# Altium integrated library TI_Logic_Specialty_Logic.IntLib: 2504 symbols (part 1 of 81)
Pins are listed as number, name and electrical type; pins without a type are passive.

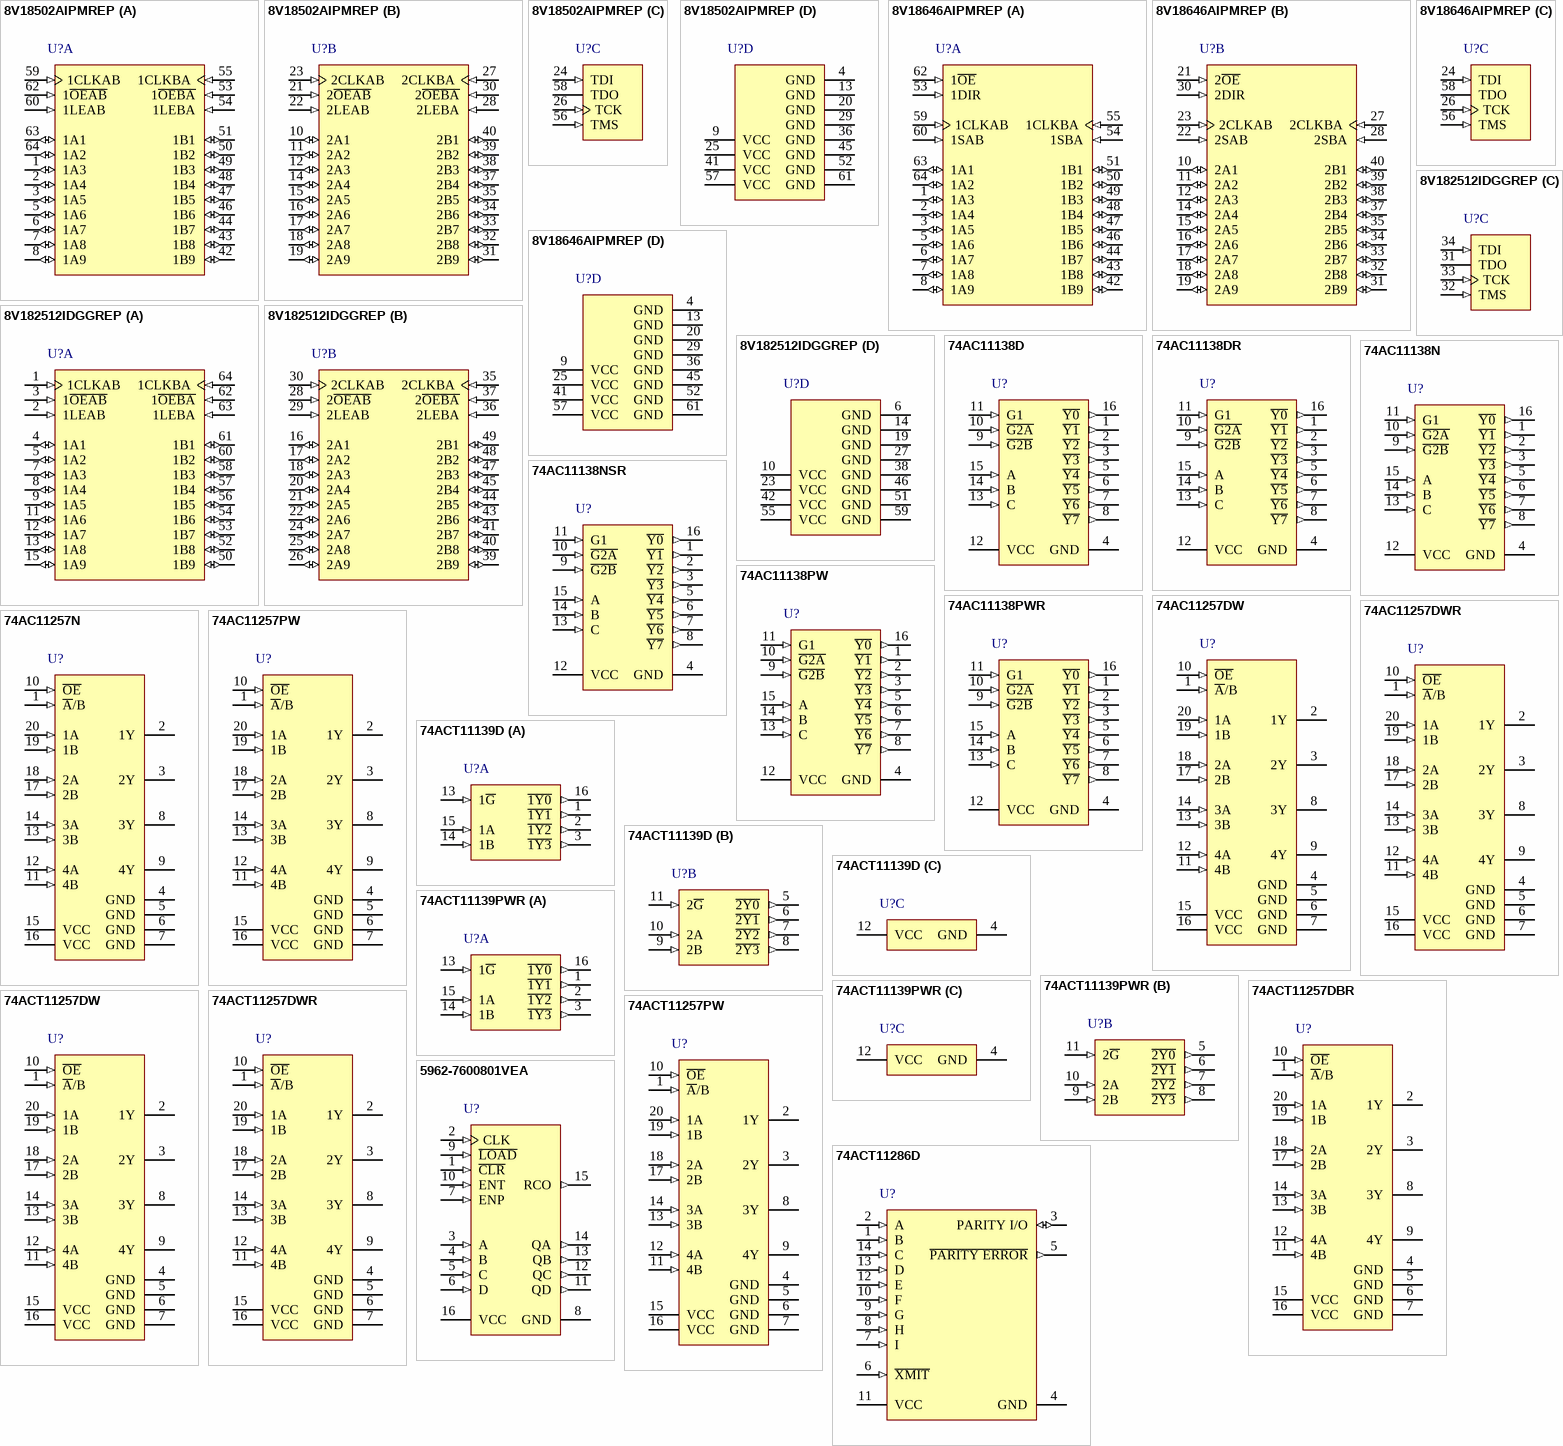
[diagram p0: symbols 8V18502AIPMREP to 5962-7600801VEA]

## 8V18502AIPMREP
designator U?
Enhanced Product 3.3-V Abt Scan Test Devices With 18-Bit Universal Bus Transceivers, PM0064A, LARGE T&R; Generic Part Number: SN74LVTH18502A-EP; Manufacturer: Texas Instruments; PartNumber: 8V18502AIPMREP; VCC(Min)(V): 2.7; VCC(Max)(V): 3.6; Output Type: TTL; ICC @ Nom Voltage(Max)(mA): 24; Bits(#): 18; F @ Nom Voltage(Max)(Mhz): 160; Rating: HiRel Enhanced Product; Technology Family: LVT; Voltage(Nom)(V): 3.3; Output Drive (IOL/IOH)(Max)(mA): 64/-32; Output Logic: True; tpd @ Nom Voltage(Max)(ns): 4.9; DatasheetVersion: SCAS744A; PackageReference: PM0064A; Supplier 1: Mouser; Supplier Part Number 1: 595-8V18502AIPMREP; Supplier 2: Digi-Key; Supplier Part Number 2: 296-22076-2-ND; Supplier 3: Digi-Key; Supplier Part Number 3: 296-22076-1-ND; Input Type: TTL; Operating Temperature Range(C): -40 to 85; ComponentLink1Description: Manufacturer URL; ComponentLink1URL: http://www.ti.com/; ComponentLink2Description: Datasheet; ComponentLink2URL: http://www.ti.com/lit/ds/symlink/sn74lvth18502a-ep.pdf
footprint PM0064A_N (QFP, 64-Leads, Body 10x10mm, Pitch 0.5mm, IPC Medium Density)
footprint PM0064A_M (QFP, 64-Leads, Body 10x10mm, Pitch 0.5mm, IPC Low Density)
footprint PM0064A_L (QFP, 64-Leads, Body 10x10mm, Pitch 0.5mm, IPC High Density)
part A pins: 1 1A3 (io) "Normal-function A-bus I/O ports. See function table for normal-mode logic.", 2 1A4 (io) "Normal-function A-bus I/O ports. See function table for normal-mode logic.", 3 1A5 (io) "Normal-function A-bus I/O ports. See function table for normal-mode logic.", 5 1A6 (io) "Normal-function A-bus I/O ports. See function table for normal-mode logic.", 6 1A7 (io) "Normal-function A-bus I/O ports. See function table for normal-mode logic.", 7 1A8 (io) "Normal-function A-bus I/O ports. See function table for normal-mode logic.", 8 1A9 (io) "Normal-function A-bus I/O ports. See function table for normal-mode logic.", 42 1B9 (io) "Normal-function B-bus I/O ports. See function table for normal-mode logic.", 43 1B8 (io) "Normal-function B-bus I/O ports. See function table for normal-mode logic.", 44 1B7 (io) "Normal-function B-bus I/O ports. See function table for normal-mode logic.", 46 1B6 (io) "Normal-function B-bus I/O ports. See function table for normal-mode logic.", 47 1B5 (io) "Normal-function B-bus I/O ports. See function table for normal-mode logic.", 48 1B4 (io) "Normal-function B-bus I/O ports. See function table for normal-mode logic.", 49 1B3 (io) "Normal-function B-bus I/O ports. See function table for normal-mode logic.", 50 1B2 (io) "Normal-function B-bus I/O ports. See function table for normal-mode logic.", 51 1B1 (io) "Normal-function B-bus I/O ports. See function table for normal-mode logic.", 53 1~{OEBA} (in) "Normal-function output enables. See function table for normal-mode logic. An internal pullup at each terminal forces the terminal to a high level if left unconnected.", 54 1LEBA (in) "Normal-function latch enables. See function table for normal-mode logic.", 55 1CLKBA (in) "Normal-function clock inputs. See function table for normal-mode logic.", 59 1CLKAB (in) "Normal-function clock inputs. See function table for normal-mode logic.", 60 1LEAB (in) "Normal-function latch enables. See function table for normal-mode logic.", 62 1~{OEAB} (in) "Normal-function output enables. See function table for normal-mode logic. An internal pullup at each terminal forces the terminal to a high level if left unconnected.", 63 1A1 (io) "Normal-function A-bus I/O ports. See function table for normal-mode logic.", 64 1A2 (io) "Normal-function A-bus I/O ports. See function table for normal-mode logic."
part B pins: 10 2A1 (io) "Normal-function A-bus I/O ports. See function table for normal-mode logic.", 11 2A2 (io) "Normal-function A-bus I/O ports. See function table for normal-mode logic.", 12 2A3 (io) "Normal-function A-bus I/O ports. See function table for normal-mode logic.", 14 2A4 (io) "Normal-function A-bus I/O ports. See function table for normal-mode logic.", 15 2A5 (io) "Normal-function A-bus I/O ports. See function table for normal-mode logic.", 16 2A6 (io) "Normal-function A-bus I/O ports. See function table for normal-mode logic.", 17 2A7 (io) "Normal-function A-bus I/O ports. See function table for normal-mode logic.", 18 2A8 (io) "Normal-function A-bus I/O ports. See function table for normal-mode logic.", 19 2A9 (io) "Normal-function A-bus I/O ports. See function table for normal-mode logic.", 21 2~{OEAB} (in) "Normal-function output enables. See function table for normal-mode logic. An internal pullup at each terminal forces the terminal to a high level if left unconnected.", 22 2LEAB (in) "Normal-function latch enables. See function table for normal-mode logic.", 23 2CLKAB (in) "Normal-function clock inputs. See function table for normal-mode logic.", 27 2CLKBA (in) "Normal-function clock inputs. See function table for normal-mode logic.", 28 2LEBA (in) "Normal-function latch enables. See function table for normal-mode logic.", 30 2~{OEBA} (in) "Normal-function output enables. See function table for normal-mode logic. An internal pullup at each terminal forces the terminal to a high level if left unconnected.", 31 2B9 (io) "Normal-function B-bus I/O ports. See function table for normal-mode logic.", 32 2B8 (io) "Normal-function B-bus I/O ports. See function table for normal-mode logic.", 33 2B7 (io) "Normal-function B-bus I/O ports. See function table for normal-mode logic.", 34 2B6 (io) "Normal-function B-bus I/O ports. See function table for normal-mode logic.", 35 2B5 (io) "Normal-function B-bus I/O ports. See function table for normal-mode logic.", 37 2B4 (io) "Normal-function B-bus I/O ports. See function table for normal-mode logic.", 38 2B3 (io) "Normal-function B-bus I/O ports. See function table for normal-mode logic.", 39 2B2 (io) "Normal-function B-bus I/O ports. See function table for normal-mode logic.", 40 2B1 (io) "Normal-function B-bus I/O ports. See function table for normal-mode logic."
part C pins: 24 TDI (in) "Test data input. One of four terminals required by IEEE Standard 1149.1-1990. TDI is the serial input for shifting data through the instruction register or selected data register. An internal pullup forces TDI to a high (See Datasheet)", 26 TCK (in) "Test clock. One of four terminals required by IEEE Standard 1149.1-1990. Test operations of the device are synchronous to TCK. Data is captured on the rising edge of TCK and outputs change on the falling edge of TCK.", 56 TMS (in) "Test mode select. One of four terminals required by IEEE Standard 1149.1-1990. TMS directs the device through its TAP controller states. An internal pullup forces TMS to a high level if left unconnected.", 58 TDO (hiz) "Test data output. One of four terminals required by IEEE Standard 1149.1-1990. TDO is the serial output for shifting data through the instruction register or selected data register."
part D pins: 4 GND (power) "Ground", 9 VCC (power) "Supply voltage", 13 GND (power) "Ground", 20 GND (power) "Ground", 25 VCC (power) "Supply voltage", 29 GND (power) "Ground", 36 GND (power) "Ground", 41 VCC (power) "Supply voltage", 45 GND (power) "Ground", 52 GND (power) "Ground", 57 VCC (power) "Supply voltage", 61 GND (power) "Ground"

## 8V18646AIPMREP
designator U?
Enhanced Product 3.3-V Abt Scan Test Devices With 18-Bit Transceivers And Registers, PM0064A, LARGE T&R; Generic Part Number: SN74LVTH18646A-EP; Manufacturer: Texas Instruments; PartNumber: 8V18646AIPMREP; VCC(Min)(V): 2.7; VCC(Max)(V): 3.6; Output Type: TTL; ICC @ Nom Voltage(Max)(mA): 24; Bits(#): 18; F @ Nom Voltage(Max)(Mhz): 160; Rating: HiRel Enhanced Product; Technology Family: LVT; Voltage(Nom)(V): 3.3; Output Drive (IOL/IOH)(Max)(mA): 64/-32; Output Logic: True; tpd @ Nom Voltage(Max)(ns): 4.7; DatasheetVersion: SCAS745A; PackageReference: PM0064A; Supplier 1: Mouser; Supplier Part Number 1: 595-8V18646AIPMREP; Supplier 2: Digi-Key; Supplier Part Number 2: 296-22077-2-ND; Supplier 3: Digi-Key; Supplier Part Number 3: 296-22077-1-ND; Input Type: TTL; Operating Temperature Range(C): -40 to 85; ComponentLink1Description: Manufacturer URL; ComponentLink1URL: http://www.ti.com/; ComponentLink2Description: Datasheet; ComponentLink2URL: http://www.ti.com/lit/ds/symlink/sn74lvth18646a-ep.pdf
footprint PM0064A_N (QFP, 64-Leads, Body 10x10mm, Pitch 0.5mm, IPC Medium Density)
footprint PM0064A_M (QFP, 64-Leads, Body 10x10mm, Pitch 0.5mm, IPC Low Density)
footprint PM0064A_L (QFP, 64-Leads, Body 10x10mm, Pitch 0.5mm, IPC High Density)
part A pins: 1 1A3 (io) "Normal-function A-bus I/O ports. See function table for normal-mode logic.", 2 1A4 (io) "Normal-function A-bus I/O ports. See function table for normal-mode logic.", 3 1A5 (io) "Normal-function A-bus I/O ports. See function table for normal-mode logic.", 5 1A6 (io) "Normal-function A-bus I/O ports. See function table for normal-mode logic.", 6 1A7 (io) "Normal-function A-bus I/O ports. See function table for normal-mode logic.", 7 1A8 (io) "Normal-function A-bus I/O ports. See function table for normal-mode logic.", 8 1A9 (io) "Normal-function A-bus I/O ports. See function table for normal-mode logic.", 42 1B9 (io) "Normal-function B-bus I/O ports. See function table for normal-mode logic.", 43 1B8 (io) "Normal-function B-bus I/O ports. See function table for normal-mode logic.", 44 1B7 (io) "Normal-function B-bus I/O ports. See function table for normal-mode logic.", 46 1B6 (io) "Normal-function B-bus I/O ports. See function table for normal-mode logic.", 47 1B5 (io) "Normal-function B-bus I/O ports. See function table for normal-mode logic.", 48 1B4 (io) "Normal-function B-bus I/O ports. See function table for normal-mode logic.", 49 1B3 (io) "Normal-function B-bus I/O ports. See function table for normal-mode logic.", 50 1B2 (io) "Normal-function B-bus I/O ports. See function table for normal-mode logic.", 51 1B1 (io) "Normal-function B-bus I/O ports. See function table for normal-mode logic.", 53 1DIR (in) "Normal-function direction controls. See function table for normal-mode logic.", 54 1SBA (in) "Normal-function select controls. See function table for normal-mode logic.", 55 1CLKBA (in) "Normal-function clock inputs. See function table for normal-mode logic.", 59 1CLKAB (in) "Normal-function clock inputs. See function table for normal-mode logic.", 60 1SAB (in) "Normal-function select controls. See function table for normal-mode logic.", 62 1~{OE} (in) "Normal-function output enables. See function table for normal-mode logic. An internal pullup at each terminal forces the terminal to a high level if left unconnected.", 63 1A1 (io) "Normal-function A-bus I/O ports. See function table for normal-mode logic.", 64 1A2 (io) "Normal-function A-bus I/O ports. See function table for normal-mode logic."
part B pins: 10 2A1 (io) "Normal-function A-bus I/O ports. See function table for normal-mode logic.", 11 2A2 (io) "Normal-function A-bus I/O ports. See function table for normal-mode logic.", 12 2A3 (io) "Normal-function A-bus I/O ports. See function table for normal-mode logic.", 14 2A4 (io) "Normal-function A-bus I/O ports. See function table for normal-mode logic.", 15 2A5 (io) "Normal-function A-bus I/O ports. See function table for normal-mode logic.", 16 2A6 (io) "Normal-function A-bus I/O ports. See function table for normal-mode logic.", 17 2A7 (io) "Normal-function A-bus I/O ports. See function table for normal-mode logic.", 18 2A8 (io) "Normal-function A-bus I/O ports. See function table for normal-mode logic.", 19 2A9 (io) "Normal-function A-bus I/O ports. See function table for normal-mode logic.", 21 2~{OE} (in) "Normal-function output enables. See function table for normal-mode logic. An internal pullup at each terminal forces the terminal to a high level if left unconnected.", 22 2SAB (in) "Normal-function select controls. See function table for normal-mode logic.", 23 2CLKAB (in) "Normal-function clock inputs. See function table for normal-mode logic.", 27 2CLKBA (in) "Normal-function clock inputs. See function table for normal-mode logic.", 28 2SBA (in) "Normal-function select controls. See function table for normal-mode logic.", 30 2DIR (in) "Normal-function direction controls. See function table for normal-mode logic.", 31 2B9 (io) "Normal-function B-bus I/O ports. See function table for normal-mode logic.", 32 2B8 (io) "Normal-function B-bus I/O ports. See function table for normal-mode logic.", 33 2B7 (io) "Normal-function B-bus I/O ports. See function table for normal-mode logic.", 34 2B6 (io) "Normal-function B-bus I/O ports. See function table for normal-mode logic.", 35 2B5 (io) "Normal-function B-bus I/O ports. See function table for normal-mode logic.", 37 2B4 (io) "Normal-function B-bus I/O ports. See function table for normal-mode logic.", 38 2B3 (io) "Normal-function B-bus I/O ports. See function table for normal-mode logic.", 39 2B2 (io) "Normal-function B-bus I/O ports. See function table for normal-mode logic.", 40 2B1 (io) "Normal-function B-bus I/O ports. See function table for normal-mode logic."
part C pins: 24 TDI (in) "Test data input. One of four terminals required by IEEE Std 1149.1-1990. TDI is the serial input for shifting data through the instruction register or selected data register. An internal pullup forces TDI to a high level if (See Datasheet)", 26 TCK (in) "Test clock. One of four terminals required by IEEE Std 1149.1-1990. Test operations of the device are synchronous to TCK. Data is captured on the rising edge of TCK and outputs change on the falling edge of TCK.", 56 TMS (in) "Test mode select. One of four terminals required by IEEE Std 1149.1-1990. TMS directs the device through its TAP controller states. An internal pullup forces TMS to a high level if left unconnected.", 58 TDO (hiz) "Test data output. One of four terminals required by IEEE Std 1149.1-1990. TDO is the serial output for shifting data through the instruction register or selected data register."
part D pins: 4 GND (power), 9 VCC (power) "Supply voltage", 13 GND (power), 20 GND (power), 25 VCC (power) "Supply voltage", 29 GND (power), 36 GND (power), 41 VCC (power) "Supply voltage", 45 GND (power), 52 GND (power), 57 VCC (power) "Supply voltage", 61 GND (power)

## 8V182512IDGGREP
designator U?
Enhanced Product 3.3-V Abt Scan Test Devices With 18-Bit Universal Bus Transceivers, DGG0064A, LARGE T&R; Generic Part Number: SN74LVTH182512-EP; Manufacturer: Texas Instruments; PartNumber: 8V182512IDGGREP; VCC(Min)(V): 2.7; VCC(Max)(V): 3.6; Output Type: TTL; ICC @ Nom Voltage(Max)(mA): 24; Bits(#): 18; F @ Nom Voltage(Max)(Mhz): 160; Rating: HiRel Enhanced Product; Technology Family: LVT; Voltage(Nom)(V): 3.3; Output Drive (IOL/IOH)(Max)(mA): 64/-32; Output Logic: True; tpd @ Nom Voltage(Max)(ns): 5.7; DatasheetVersion: SCBS790; PackageReference: DGG0064A; Supplier 1: Mouser; Supplier Part Number 1: 595-8V182512IDGGREP; Supplier 2: Digi-Key; Supplier Part Number 2: 296-22075-2-ND; Supplier 3: Digi-Key; Supplier Part Number 3: 296-22075-1-ND; Supplier 4: Digi-Key; Supplier Part Number 4: 296-22075-6-ND; Input Type: TTL; Operating Temperature Range(C): -40 to 85; ComponentLink1Description: Manufacturer URL; ComponentLink1URL: http://www.ti.com/; ComponentLink2Description: Datasheet; ComponentLink2URL: http://www.ti.com/lit/ds/symlink/sn74lvth182512-ep.pdf
footprint DGG0064A_N (TSSOP, 64-Leads, Body 17.1x6.2mm, Pitch 0.5mm, IPC Medium Density)
footprint DGG0064A_M (TSSOP, 64-Leads, Body 17.1x6.2mm, Pitch 0.5mm, IPC Low Density)
footprint DGG0064A_L (TSSOP, 64-Leads, Body 17.1x6.2mm, Pitch 0.5mm, IPC High Density)
part A pins: 1 1CLKAB (in) "Normal-function clock inputs. See function table for normal-mode logic.", 2 1LEAB (in) "Normal-function latch enables. See function table for normal-mode logic", 3 1~{OEAB} (in) "Normal-function output enables. See function table for normal-mode logic. An internal pullup at each terminal forces the terminal to a high level if left unconnected.", 4 1A1 (io) "Normal-function A-bus I/O ports. See function table for normal-mode logic.", 5 1A2 (io) "Normal-function A-bus I/O ports. See function table for normal-mode logic.", 7 1A3 (io) "Normal-function A-bus I/O ports. See function table for normal-mode logic.", 8 1A4 (io) "Normal-function A-bus I/O ports. See function table for normal-mode logic.", 9 1A5 (io) "Normal-function A-bus I/O ports. See function table for normal-mode logic.", 11 1A6 (io) "Normal-function A-bus I/O ports. See function table for normal-mode logic.", 12 1A7 (io) "Normal-function A-bus I/O ports. See function table for normal-mode logic.", 13 1A8 (io) "Normal-function A-bus I/O ports. See function table for normal-mode logic.", 15 1A9 (io) "Normal-function A-bus I/O ports. See function table for normal-mode logic.", 50 1B9 (io) "Normal-function B-bus I/O ports. See function table for normal-mode logic.", 52 1B8 (io) "Normal-function B-bus I/O ports. See function table for normal-mode logic.", 53 1B7 (io) "Normal-function B-bus I/O ports. See function table for normal-mode logic.", 54 1B6 (io) "Normal-function B-bus I/O ports. See function table for normal-mode logic.", 56 1B5 (io) "Normal-function B-bus I/O ports. See function table for normal-mode logic.", 57 1B4 (io) "Normal-function B-bus I/O ports. See function table for normal-mode logic.", 58 1B3 (io) "Normal-function B-bus I/O ports. See function table for normal-mode logic.", 60 1B2 (io) "Normal-function B-bus I/O ports. See function table for normal-mode logic.", 61 1B1 (io) "Normal-function B-bus I/O ports. See function table for normal-mode logic.", 62 1~{OEBA} (in) "Normal-function output enables. See function table for normal-mode logic. An internal pullup at each terminal forces the terminal to a high level if left unconnected.", 63 1LEBA (in) "Normal-function latch enables. See function table for normal-mode logic", 64 1CLKBA (in) "Normal-function clock inputs. See function table for normal-mode logic."
part B pins: 16 2A1 (io) "Normal-function A-bus I/O ports. See function table for normal-mode logic.", 17 2A2 (io) "Normal-function A-bus I/O ports. See function table for normal-mode logic.", 18 2A3 (io) "Normal-function A-bus I/O ports. See function table for normal-mode logic.", 20 2A4 (io) "Normal-function A-bus I/O ports. See function table for normal-mode logic.", 21 2A5 (io) "Normal-function A-bus I/O ports. See function table for normal-mode logic.", 22 2A6 (io) "Normal-function A-bus I/O ports. See function table for normal-mode logic.", 24 2A7 (io) "Normal-function A-bus I/O ports. See function table for normal-mode logic.", 25 2A8 (io) "Normal-function A-bus I/O ports. See function table for normal-mode logic.", 26 2A9 (io) "Normal-function A-bus I/O ports. See function table for normal-mode logic.", 28 2~{OEAB} (in) "Normal-function output enables. See function table for normal-mode logic. An internal pullup at each terminal forces the terminal to a high level if left unconnected.", 29 2LEAB (in) "Normal-function latch enables. See function table for normal-mode logic", 30 2CLKAB (in) "Normal-function clock inputs. See function table for normal-mode logic.", 35 2CLKBA (in) "Normal-function clock inputs. See function table for normal-mode logic.", 36 2LEBA (in) "Normal-function latch enables. See function table for normal-mode logic", 37 2~{OEBA} (in) "Normal-function output enables. See function table for normal-mode logic. An internal pullup at each terminal forces the terminal to a high level if left unconnected.", 39 2B9 (io) "Normal-function B-bus I/O ports. See function table for normal-mode logic.", 40 2B8 (io) "Normal-function B-bus I/O ports. See function table for normal-mode logic.", 41 2B7 (io) "Normal-function B-bus I/O ports. See function table for normal-mode logic.", 43 2B6 (io) "Normal-function B-bus I/O ports. See function table for normal-mode logic.", 44 2B5 (io) "Normal-function B-bus I/O ports. See function table for normal-mode logic.", 45 2B4 (io) "Normal-function B-bus I/O ports. See function table for normal-mode logic.", 47 2B3 (io) "Normal-function B-bus I/O ports. See function table for normal-mode logic.", 48 2B2 (io) "Normal-function B-bus I/O ports. See function table for normal-mode logic.", 49 2B1 (io) "Normal-function B-bus I/O ports. See function table for normal-mode logic."
part C pins: 31 TDO (hiz) "Test data output. One of four terminals required by IEEE Std 1149.1-1990. TDO is the serial output for shifting data through the instruction register or selected data register.", 32 TMS (in) "Test mode select. One of four terminals required by IEEE Std 1149.1-1990. TMS directs the device through its TAP controller states. An internal pullup forces TMS to a high level if left unconnected.", 33 TCK (in) "Test clock. One of four terminals required by IEEE Std 1149.1-1990. Test operations of the device are synchronous to TCK. Data is captured on the rising edge of TCK and outputs change on the falling edge of TCK", 34 TDI (in) "Test data input. One of four terminals required by IEEE Std 1149.1-1990. TDI is the serial input for shifting data through the instruction register or selected data register. An internal pullup forces TDI to a high level if (See Datasheet)"
part D pins: 6 GND (power), 10 VCC (power) "Supply voltage", 14 GND (power), 19 GND (power), 23 VCC (power) "Supply voltage", 27 GND (power), 38 GND (power), 42 VCC (power) "Supply voltage", 46 GND (power), 51 GND (power), 55 VCC (power) "Supply voltage", 59 GND (power)

## 74AC11138D
designator U?
3-Line to 8-Line Decoders/Demultiplexers, D0016A, TUBE; Generic Part Number: 74AC11138; Manufacturer: Texas Instruments; PartNumber: 74AC11138D; VCC(Min)(V): 3; VCC(Max)(V): 5.5; Output Type: CMOS; Function: Decoder/Demultiplexer; ICC @ Nom Voltage(Max)(mA): 0.04; Input Type: LVTTL/CMOS; Bits(#): 8; F @ Nom Voltage(Max)(Mhz): 100; Configuration: 3：8; Channels(#): 1; Rating: Catalog; Technology Family: AC; Voltage(Nom)(V): 3.3,5; Schmitt Trigger: No; Output Drive (IOL/IOH)(Max)(mA): 24/-24; tpd @ Nom Voltage(Max)(ns): 12.2,8.8; DatasheetVersion: SCAS042B; PackageReference: D0016A; Supplier 1: Mouser; Supplier Part Number 1: 595-74AC11138D; Supplier 2: Digi-Key; Supplier Part Number 2: 296-32792-5-ND; Operating Temperature Range(C): -40 to 85; Type: Standard; Code_JEDEC: MS-012 variation AC; ComponentLink1Description: Manufacturer URL; ComponentLink1URL: http://www.ti.com/; ComponentLink2Description: Datasheet; ComponentLink2URL: http://www.ti.com/lit/ds/symlink/74ac11138.pdf; ComponentLink3Description: Package Specification; ComponentLink3URL: http://www.ti.com/lit/ml/mpds178g/mpds178g.pdf
footprint D0016A_N (SOIC, 16-Leads, Body 10x4mm, Pitch 1.27mm, IPC Medium Density)
footprint D0016A_M (SOIC, 16-Leads, Body 10x4mm, Pitch 1.27mm, IPC Low Density)
footprint D0016A_L (SOIC, 16-Leads, Body 10x4mm, Pitch 1.27mm, IPC High Density)
pins: 1 ~{Y1} (out), 2 ~{Y2} (out), 3 ~{Y3} (out), 4 GND (power), 5 ~{Y4} (out), 6 ~{Y5} (out), 7 ~{Y6} (out), 8 ~{Y7} (out), 9 ~{G2B} (in), 10 ~{G2A} (in), 11 G1 (in), 12 VCC (power), 13 C (in), 14 B (in), 15 A (in), 16 ~{Y0} (out)

## 74AC11138DR
designator U?
3-Line to 8-Line Decoders/Demultiplexers, D0016A, LARGE T&R; Generic Part Number: 74AC11138; Manufacturer: Texas Instruments; PartNumber: 74AC11138DR; VCC(Min)(V): 3; VCC(Max)(V): 5.5; Output Type: CMOS; Function: Decoder/Demultiplexer; ICC @ Nom Voltage(Max)(mA): 0.04; Input Type: LVTTL/CMOS; Bits(#): 8; F @ Nom Voltage(Max)(Mhz): 100; Configuration: 3：8; Channels(#): 1; Rating: Catalog; Technology Family: AC; Voltage(Nom)(V): 3.3,5; Schmitt Trigger: No; Output Drive (IOL/IOH)(Max)(mA): 24/-24; tpd @ Nom Voltage(Max)(ns): 12.2,8.8; DatasheetVersion: SCAS042B; PackageReference: D0016A; Supplier 1: Mouser; Supplier Part Number 1: 595-74AC11138DR; Supplier 2: Digi-Key; Supplier Part Number 2: 74AC11138DR-ND; Operating Temperature Range(C): -40 to 85; Type: Standard; Code_JEDEC: MS-012 variation AC; ComponentLink1Description: Manufacturer URL; ComponentLink1URL: http://www.ti.com/; ComponentLink2Description: Datasheet; ComponentLink2URL: http://www.ti.com/lit/ds/symlink/74ac11138.pdf; ComponentLink3Description: Package Specification; ComponentLink3URL: http://www.ti.com/lit/ml/mpds178g/mpds178g.pdf
footprint D0016A_N (SOIC, 16-Leads, Body 10x4mm, Pitch 1.27mm, IPC Medium Density)
footprint D0016A_M (SOIC, 16-Leads, Body 10x4mm, Pitch 1.27mm, IPC Low Density)
footprint D0016A_L (SOIC, 16-Leads, Body 10x4mm, Pitch 1.27mm, IPC High Density)
pins: 1 ~{Y1} (out), 2 ~{Y2} (out), 3 ~{Y3} (out), 4 GND (power), 5 ~{Y4} (out), 6 ~{Y5} (out), 7 ~{Y6} (out), 8 ~{Y7} (out), 9 ~{G2B} (in), 10 ~{G2A} (in), 11 G1 (in), 12 VCC (power), 13 C (in), 14 B (in), 15 A (in), 16 ~{Y0} (out)

## 74AC11138N
designator U?
3-Line to 8-Line Decoders/Demultiplexers, N0016A, TUBE; Generic Part Number: 74AC11138; Manufacturer: Texas Instruments; PartNumber: 74AC11138N; VCC(Min)(V): 3; VCC(Max)(V): 5.5; Output Type: CMOS; Function: Decoder/Demultiplexer; ICC @ Nom Voltage(Max)(mA): 0.04; Input Type: LVTTL/CMOS; Bits(#): 8; F @ Nom Voltage(Max)(Mhz): 100; Configuration: 3：8; Channels(#): 1; Rating: Catalog; Technology Family: AC; Voltage(Nom)(V): 3.3,5; Schmitt Trigger: No; Output Drive (IOL/IOH)(Max)(mA): 24/-24; tpd @ Nom Voltage(Max)(ns): 12.2,8.8; DatasheetVersion: SCAS042B; PackageReference: N0016A; Supplier 1: Mouser; Supplier Part Number 1: 595-74AC11138N; Supplier 2: Digi-Key; Supplier Part Number 2: 296-4162-5-ND; Operating Temperature Range(C): -40 to 85; Type: Standard; Code_JEDEC: MS-001; ComponentLink1Description: Manufacturer URL; ComponentLink1URL: http://www.ti.com/; ComponentLink2Description: Datasheet; ComponentLink2URL: http://www.ti.com/lit/ds/symlink/74ac11138.pdf; ComponentLink3Description: Package Specification; ComponentLink3URL: http://www.ti.com/lit/ml/mpdi002c/mpdi002c.pdf
footprint N0016A (DIP, 16-Leads, Body 19.7x6.6mm, Pitch 2.54mm)
pins: 1 ~{Y1} (out), 2 ~{Y2} (out), 3 ~{Y3} (out), 4 GND (power), 5 ~{Y4} (out), 6 ~{Y5} (out), 7 ~{Y6} (out), 8 ~{Y7} (out), 9 ~{G2B} (in), 10 ~{G2A} (in), 11 G1 (in), 12 VCC (power), 13 C (in), 14 B (in), 15 A (in), 16 ~{Y0} (out)

## 74AC11138NSR
designator U?
3-Line to 8-Line Decoders/Demultiplexers, NS0016A, LARGE T&R; Generic Part Number: 74AC11138; Manufacturer: Texas Instruments; PartNumber: 74AC11138NSR; VCC(Min)(V): 3; VCC(Max)(V): 5.5; Output Type: CMOS; Function: Decoder/Demultiplexer; ICC @ Nom Voltage(Max)(mA): 0.04; Input Type: LVTTL/CMOS; Bits(#): 8; F @ Nom Voltage(Max)(Mhz): 100; Configuration: 3：8; Channels(#): 1; Rating: Catalog; Technology Family: AC; Voltage(Nom)(V): 3.3,5; Schmitt Trigger: No; Output Drive (IOL/IOH)(Max)(mA): 24/-24; tpd @ Nom Voltage(Max)(ns): 12.2,8.8; DatasheetVersion: SCAS042B; PackageReference: NS0016A; Supplier 1: Mouser; Supplier Part Number 1: 595-74AC11138NSR; Supplier 2: Digi-Key; Supplier Part Number 2: 296-28462-2-ND; Supplier 3: Digi-Key; Supplier Part Number 3: 296-28462-1-ND; Supplier 4: Digi-Key; Supplier Part Number 4: 296-28462-6-ND; Operating Temperature Range(C): -40 to 85; Type: Standard; ComponentLink1Description: Manufacturer URL; ComponentLink1URL: http://www.ti.com/; ComponentLink2Description: Datasheet; ComponentLink2URL: http://www.ti.com/lit/ds/symlink/74ac11138.pdf; ComponentLink3Description: Package Specification; ComponentLink3URL: http://www.ti.com/lit/ml/msop002a/msop002a.pdf
footprint NS0016A_N (SOIC,16-Leads,Body 10.5x5.6mm,Pitch 1.27mm,IPC Medium Density)
footprint NS0016A_M (SOIC,16-Leads,Body 10.5x5.6mm,Pitch 1.27mm,IPC Low Density)
footprint NS0016A_L (SOIC,16-Leads,Body 10.5x5.6mm,Pitch 1.27mm,IPC High Density)
pins: 1 ~{Y1} (out), 2 ~{Y2} (out), 3 ~{Y3} (out), 4 GND (power), 5 ~{Y4} (out), 6 ~{Y5} (out), 7 ~{Y6} (out), 8 ~{Y7} (out), 9 ~{G2B} (in), 10 ~{G2A} (in), 11 G1 (in), 12 VCC (power), 13 C (in), 14 B (in), 15 A (in), 16 ~{Y0} (out)

## 74AC11138PW
designator U?
3-Line to 8-Line Decoders/Demultiplexers, PW0016A, TUBE; Generic Part Number: 74AC11138; Manufacturer: Texas Instruments; PartNumber: 74AC11138PW; VCC(Min)(V): 3; VCC(Max)(V): 5.5; Output Type: CMOS; Function: Decoder/Demultiplexer; ICC @ Nom Voltage(Max)(mA): 0.04; Input Type: LVTTL/CMOS; Bits(#): 8; F @ Nom Voltage(Max)(Mhz): 100; Configuration: 3：8; Channels(#): 1; Rating: Catalog; Technology Family: AC; Voltage(Nom)(V): 3.3,5; Schmitt Trigger: No; Output Drive (IOL/IOH)(Max)(mA): 24/-24; tpd @ Nom Voltage(Max)(ns): 12.2,8.8; DatasheetVersion: SCAS042B; PackageReference: PW0016A; Supplier 1: Mouser; Supplier Part Number 1: 595-74AC11138PW; Supplier 2: Digi-Key; Supplier Part Number 2: 296-32793-5-ND; Operating Temperature Range(C): -40 to 85; Type: Standard; Code_JEDEC: MO-153; ComponentLink1Description: Manufacturer URL; ComponentLink1URL: http://www.ti.com/; ComponentLink2Description: Datasheet; ComponentLink2URL: http://www.ti.com/lit/ds/symlink/74ac11138.pdf; ComponentLink3Description: Package Specification; ComponentLink3URL: http://www.ti.com/lit/ml/mpds361/mpds361.pdf
footprint PW0016A_N (SOP, 16-Leads, Body 5.1x4.5mm, Pitch 0.65mm, IPC Medium Density)
footprint PW0016A_M (SOP, 16-Leads, Body 5.1x4.5mm, Pitch 0.65mm, IPC Low Density)
footprint PW0016A_L (SOP, 16-Leads, Body 5.1x4.5mm, Pitch 0.65mm, IPC High Density)
pins: 1 ~{Y1} (out), 2 ~{Y2} (out), 3 ~{Y3} (out), 4 GND (power), 5 ~{Y4} (out), 6 ~{Y5} (out), 7 ~{Y6} (out), 8 ~{Y7} (out), 9 ~{G2B} (in), 10 ~{G2A} (in), 11 G1 (in), 12 VCC (power), 13 C (in), 14 B (in), 15 A (in), 16 ~{Y0} (out)

## 74AC11138PWR
designator U?
3-Line to 8-Line Decoders/Demultiplexers, PW0016A, LARGE T&R; Generic Part Number: 74AC11138; Manufacturer: Texas Instruments; PartNumber: 74AC11138PWR; VCC(Min)(V): 3; VCC(Max)(V): 5.5; Output Type: CMOS; Function: Decoder/Demultiplexer; ICC @ Nom Voltage(Max)(mA): 0.04; Input Type: LVTTL/CMOS; Bits(#): 8; F @ Nom Voltage(Max)(Mhz): 100; Configuration: 3：8; Channels(#): 1; Rating: Catalog; Technology Family: AC; Voltage(Nom)(V): 3.3,5; Schmitt Trigger: No; Output Drive (IOL/IOH)(Max)(mA): 24/-24; tpd @ Nom Voltage(Max)(ns): 12.2,8.8; DatasheetVersion: SCAS042B; PackageReference: PW0016A; Supplier 1: Mouser; Supplier Part Number 1: 595-74AC11138PWR; Supplier 2: Digi-Key; Supplier Part Number 2: 296-4163-2-ND; Supplier 3: Digi-Key; Supplier Part Number 3: 296-4163-1-ND; Supplier 4: Digi-Key; Supplier Part Number 4: 296-4163-6-ND; Operating Temperature Range(C): -40 to 85; Type: Standard; Code_JEDEC: MO-153; ComponentLink1Description: Manufacturer URL; ComponentLink1URL: http://www.ti.com/; ComponentLink2Description: Datasheet; ComponentLink2URL: http://www.ti.com/lit/ds/symlink/74ac11138.pdf; ComponentLink3Description: Package Specification; ComponentLink3URL: http://www.ti.com/lit/ml/mpds361/mpds361.pdf
footprint PW0016A_N (SOP, 16-Leads, Body 5.1x4.5mm, Pitch 0.65mm, IPC Medium Density)
footprint PW0016A_M (SOP, 16-Leads, Body 5.1x4.5mm, Pitch 0.65mm, IPC Low Density)
footprint PW0016A_L (SOP, 16-Leads, Body 5.1x4.5mm, Pitch 0.65mm, IPC High Density)
pins: 1 ~{Y1} (out), 2 ~{Y2} (out), 3 ~{Y3} (out), 4 GND (power), 5 ~{Y4} (out), 6 ~{Y5} (out), 7 ~{Y6} (out), 8 ~{Y7} (out), 9 ~{G2B} (in), 10 ~{G2A} (in), 11 G1 (in), 12 VCC (power), 13 C (in), 14 B (in), 15 A (in), 16 ~{Y0} (out)

## 74AC11257DW
designator U?
Quadruple 2-Line To 1-Line Data Selectors/Multiplexers With 3-State Outputs, DW0020A, TUBE; Generic Part Number: 74AC11257; Manufacturer: Texas Instruments; PartNumber: 74AC11257DW; VCC(Min)(V): 3; VCC(Max)(V): 5.5; Output Type: CMOS; Function: Encoder/Multiplexer; ICC @ Nom Voltage(Max)(mA): 0.08; Input Type: LVTTL/CMOS; Bits(#): 2; F @ Nom Voltage(Max)(Mhz): 100; Configuration: 2：1; Channels(#): 4; Rating: Catalog; Technology Family: AC; Voltage(Nom)(V): 3.3,5; Schmitt Trigger: No; Output Drive (IOL/IOH)(Max)(mA): 24/-24; tpd @ Nom Voltage(Max)(ns): 9,6.5; DatasheetVersion: SCAS049C; PackageReference: DW0020A; Supplier 1: Mouser; Supplier Part Number 1: 595-74AC11257DW; Supplier 2: Digi-Key; Supplier Part Number 2: 74AC11257DW-ND; Operating Temperature Range(C): -40 to 85; Type: 3-State Output; Code_JEDEC: MS-013; ComponentLink1Description: Manufacturer URL; ComponentLink1URL: http://www.ti.com/; ComponentLink2Description: Datasheet; ComponentLink2URL: http://www.ti.com/lit/ds/symlink/74ac11257.pdf; ComponentLink3Description: Package Specification; ComponentLink3URL: http://www.ti.com/lit/ml/mpds173a/mpds173a.pdf
footprint DW0020A_N (SOIC, 20-Leads, Body 13x7.6mm, Pitch 1.27mm, IPC Medium Density)
footprint DW0020A_M (SOIC, 20-Leads, Body 13x7.6mm, Pitch 1.27mm, IPC Low Density)
footprint DW0020A_L (SOIC, 20-Leads, Body 13x7.6mm, Pitch 1.27mm, IPC High Density)
pins: 1 ~{A}/B (in), 2 1Y (hiz), 3 2Y (hiz), 4 GND (power), 5 GND (power), 6 GND (power), 7 GND (power), 8 3Y (hiz), 9 4Y (hiz), 10 ~{OE} (in), 11 4B (in), 12 4A (in), 13 3B (in), 14 3A (in), 15 VCC (power), 16 VCC (power), 17 2B (in), 18 2A (in), 19 1B (in), 20 1A (in)

## 74AC11257DWR
designator U?
Quadruple 2-Line To 1-Line Data Selectors/Multiplexers With 3-State Outputs, DW0020A, LARGE T&R; Generic Part Number: 74AC11257; Manufacturer: Texas Instruments; PartNumber: 74AC11257DWR; VCC(Min)(V): 3; VCC(Max)(V): 5.5; Output Type: CMOS; Function: Encoder/Multiplexer; ICC @ Nom Voltage(Max)(mA): 0.08; Input Type: LVTTL/CMOS; Bits(#): 2; F @ Nom Voltage(Max)(Mhz): 100; Configuration: 2：1; Channels(#): 4; Rating: Catalog; Technology Family: AC; Voltage(Nom)(V): 3.3,5; Schmitt Trigger: No; Output Drive (IOL/IOH)(Max)(mA): 24/-24; tpd @ Nom Voltage(Max)(ns): 9,6.5; DatasheetVersion: SCAS049C; PackageReference: DW0020A; Supplier 1: Mouser; Supplier Part Number 1: 595-74AC11257DWR; Supplier 2: Digi-Key; Supplier Part Number 2: 74AC11257DWR-ND; Operating Temperature Range(C): -40 to 85; Type: 3-State Output; Code_JEDEC: MS-013; ComponentLink1Description: Manufacturer URL; ComponentLink1URL: http://www.ti.com/; ComponentLink2Description: Datasheet; ComponentLink2URL: http://www.ti.com/lit/ds/symlink/74ac11257.pdf; ComponentLink3Description: Package Specification; ComponentLink3URL: http://www.ti.com/lit/ml/mpds173a/mpds173a.pdf
footprint DW0020A_N (SOIC, 20-Leads, Body 13x7.6mm, Pitch 1.27mm, IPC Medium Density)
footprint DW0020A_M (SOIC, 20-Leads, Body 13x7.6mm, Pitch 1.27mm, IPC Low Density)
footprint DW0020A_L (SOIC, 20-Leads, Body 13x7.6mm, Pitch 1.27mm, IPC High Density)
pins: 1 ~{A}/B (in), 2 1Y (hiz), 3 2Y (hiz), 4 GND (power), 5 GND (power), 6 GND (power), 7 GND (power), 8 3Y (hiz), 9 4Y (hiz), 10 ~{OE} (in), 11 4B (in), 12 4A (in), 13 3B (in), 14 3A (in), 15 VCC (power), 16 VCC (power), 17 2B (in), 18 2A (in), 19 1B (in), 20 1A (in)

## 74AC11257N
designator U?
Quadruple 2-Line To 1-Line Data Selectors/Multiplexers With 3-State Outputs, N0020A, TUBE; Generic Part Number: 74AC11257; Manufacturer: Texas Instruments; PartNumber: 74AC11257N; VCC(Min)(V): 3; VCC(Max)(V): 5.5; Output Type: CMOS; Function: Encoder/Multiplexer; ICC @ Nom Voltage(Max)(mA): 0.08; Input Type: LVTTL/CMOS; Bits(#): 2; F @ Nom Voltage(Max)(Mhz): 100; Configuration: 2：1; Channels(#): 4; Rating: Catalog; Technology Family: AC; Voltage(Nom)(V): 3.3,5; Schmitt Trigger: No; Output Drive (IOL/IOH)(Max)(mA): 24/-24; tpd @ Nom Voltage(Max)(ns): 9,6.5; DatasheetVersion: SCAS049C; PackageReference: N0020A; Supplier 1: Mouser; Supplier Part Number 1: 595-74AC11257N; Supplier 2: Digi-Key; Supplier Part Number 2: 296-32797-5-ND; Operating Temperature Range(C): -40 to 85; Type: 3-State Output; Code_JEDEC: MS-001; ComponentLink1Description: Manufacturer URL; ComponentLink1URL: http://www.ti.com/; ComponentLink2Description: Datasheet; ComponentLink2URL: http://www.ti.com/lit/ds/symlink/74ac11257.pdf; ComponentLink3Description: Package Specification; ComponentLink3URL: http://www.ti.com/lit/ml/mpdi002c/mpdi002c.pdf
footprint N0020A (DIP, 20-Leads, Body 26.9x6.6mm, Pitch 2.54mm)
pins: 1 ~{A}/B (in), 2 1Y (hiz), 3 2Y (hiz), 4 GND (power), 5 GND (power), 6 GND (power), 7 GND (power), 8 3Y (hiz), 9 4Y (hiz), 10 ~{OE} (in), 11 4B (in), 12 4A (in), 13 3B (in), 14 3A (in), 15 VCC (power), 16 VCC (power), 17 2B (in), 18 2A (in), 19 1B (in), 20 1A (in)

## 74AC11257PW
designator U?
Quadruple 2-Line To 1-Line Data Selectors/Multiplexers With 3-State Outputs, PW0020A, TUBE; Generic Part Number: 74AC11257; Manufacturer: Texas Instruments; PartNumber: 74AC11257PW; VCC(Min)(V): 3; VCC(Max)(V): 5.5; Output Type: CMOS; Function: Encoder/Multiplexer; ICC @ Nom Voltage(Max)(mA): 0.08; Input Type: LVTTL/CMOS; Bits(#): 2; F @ Nom Voltage(Max)(Mhz): 100; Configuration: 2：1; Channels(#): 4; Rating: Catalog; Technology Family: AC; Voltage(Nom)(V): 3.3,5; Schmitt Trigger: No; Output Drive (IOL/IOH)(Max)(mA): 24/-24; tpd @ Nom Voltage(Max)(ns): 9,6.5; DatasheetVersion: SCAS049C; PackageReference: PW0020A; Supplier 1: Mouser; Supplier Part Number 1: 595-74AC11257PW; Supplier 2: Digi-Key; Supplier Part Number 2: 296-41530-5-ND; Operating Temperature Range(C): -40 to 85; Type: 3-State Output; Code_JEDEC: MO-153; ComponentLink1Description: Manufacturer URL; ComponentLink1URL: http://www.ti.com/; ComponentLink2Description: Datasheet; ComponentLink2URL: http://www.ti.com/lit/ds/symlink/74ac11257.pdf; ComponentLink3Description: Package Specification; ComponentLink3URL: http://www.ti.com/lit/ml/mpds362/mpds362.pdf
footprint PW0020A_N (SOP, 20-Leads, Body 6.6x4.5mm, Pitch 0.65mm, IPC Medium Density)
footprint PW0020A_M (SOP, 20-Leads, Body 6.6x4.5mm, Pitch 0.65mm, IPC Low Density)
footprint PW0020A_L (SOP, 20-Leads, Body 6.6x4.5mm, Pitch 0.65mm, IPC High Density)
pins: 1 ~{A}/B (in), 2 1Y (hiz), 3 2Y (hiz), 4 GND (power), 5 GND (power), 6 GND (power), 7 GND (power), 8 3Y (hiz), 9 4Y (hiz), 10 ~{OE} (in), 11 4B (in), 12 4A (in), 13 3B (in), 14 3A (in), 15 VCC (power), 16 VCC (power), 17 2B (in), 18 2A (in), 19 1B (in), 20 1A (in)

## 74ACT11139D
designator U?
Dual 2-Line to 4-Line Decoder/Demultiplexer, D0016A, TUBE; Generic Part Number: 74ACT11139; Manufacturer: Texas Instruments; PartNumber: 74ACT11139D; VCC(Min)(V): 4.5; VCC(Max)(V): 5.5; Output Type: CMOS; ICC @ Nom Voltage(Max)(mA): 0.08; Input Type: TTL; Bits(#): 4; F @ Nom Voltage(Max)(Mhz): 90; Configuration: 2：4; Channels(#): 2; Rating: Catalog; Technology Family: ACT; Voltage(Nom)(V): 5; Schmitt Trigger: No; Output Drive (IOL/IOH)(Max)(mA): 24/-24; tpd @ Nom Voltage(Max)(ns): 7.8; DatasheetVersion: SCAS175A; PackageReference: D0016A; Supplier 1: Mouser; Supplier Part Number 1: 595-74ACT11139D; Supplier 2: Digi-Key; Supplier Part Number 2: 296-4185-5-ND; Function: Decoder/Demultiplexer; Operating Temperature Range(C): -40 to 85; Type: Standard; Code_JEDEC: MS-012 variation AC; ComponentLink1Description: Manufacturer URL; ComponentLink1URL: http://www.ti.com/; ComponentLink2Description: Datasheet; ComponentLink2URL: http://www.ti.com/lit/ds/symlink/74act11139.pdf; ComponentLink3Description: Package Specification; ComponentLink3URL: http://www.ti.com/lit/ml/mpds178g/mpds178g.pdf
footprint D0016A_N (SOIC, 16-Leads, Body 10x4mm, Pitch 1.27mm, IPC Medium Density)
footprint D0016A_M (SOIC, 16-Leads, Body 10x4mm, Pitch 1.27mm, IPC Low Density)
footprint D0016A_L (SOIC, 16-Leads, Body 10x4mm, Pitch 1.27mm, IPC High Density)
part A pins: 1 ~{1Y1} (out), 2 ~{1Y2} (out), 3 ~{1Y3} (out), 13 1~{G} (in), 14 1B (in), 15 1A (in), 16 ~{1Y0} (out)
part B pins: 5 ~{2Y0} (out), 6 ~{2Y1} (out), 7 ~{2Y2} (out), 8 ~{2Y3} (out), 9 2B (in), 10 2A (in), 11 2~{G} (in)
part C pins: 4 GND (power), 12 VCC (power)

## 74ACT11139PWR
designator U?
Dual 2-Line to 4-Line Decoder/Demultiplexer, PW0016A, LARGE T&R; Generic Part Number: 74ACT11139; Manufacturer: Texas Instruments; PartNumber: 74ACT11139PWR; VCC(Min)(V): 4.5; VCC(Max)(V): 5.5; Output Type: CMOS; ICC @ Nom Voltage(Max)(mA): 0.08; Input Type: TTL; Bits(#): 4; F @ Nom Voltage(Max)(Mhz): 90; Configuration: 2：4; Channels(#): 2; Rating: Catalog; Technology Family: ACT; Voltage(Nom)(V): 5; Schmitt Trigger: No; Output Drive (IOL/IOH)(Max)(mA): 24/-24; tpd @ Nom Voltage(Max)(ns): 7.8; DatasheetVersion: SCAS175A; PackageReference: PW0016A; Supplier 1: Mouser; Supplier Part Number 1: 595-74ACT11139PWR; Supplier 2: Digi-Key; Supplier Part Number 2: 296-4186-2-ND; Supplier 3: Digi-Key; Supplier Part Number 3: 296-4186-1-ND; Supplier 4: Digi-Key; Supplier Part Number 4: 296-4186-6-ND; Function: Decoder/Demultiplexer; Operating Temperature Range(C): -40 to 85; Type: Standard; Code_JEDEC: MO-153; ComponentLink1Description: Manufacturer URL; ComponentLink1URL: http://www.ti.com/; ComponentLink2Description: Datasheet; ComponentLink2URL: http://www.ti.com/lit/ds/symlink/74act11139.pdf; ComponentLink3Description: Package Specification; ComponentLink3URL: http://www.ti.com/lit/ml/mpds361/mpds361.pdf
footprint PW0016A_N (SOP, 16-Leads, Body 5.1x4.5mm, Pitch 0.65mm, IPC Medium Density)
footprint PW0016A_M (SOP, 16-Leads, Body 5.1x4.5mm, Pitch 0.65mm, IPC Low Density)
footprint PW0016A_L (SOP, 16-Leads, Body 5.1x4.5mm, Pitch 0.65mm, IPC High Density)
part A pins: 1 ~{1Y1} (out), 2 ~{1Y2} (out), 3 ~{1Y3} (out), 13 1~{G} (in), 14 1B (in), 15 1A (in), 16 ~{1Y0} (out)
part B pins: 5 ~{2Y0} (out), 6 ~{2Y1} (out), 7 ~{2Y2} (out), 8 ~{2Y3} (out), 9 2B (in), 10 2A (in), 11 2~{G} (in)
part C pins: 4 GND (power), 12 VCC (power)

## 74ACT11257DBR
designator U?
Quadruple 2-Line To 1-Line Data Selectors/Multiplexers With 3-State Outputs, DB0020A, LARGE T&R; Generic Part Number: 74ACT11257; Manufacturer: Texas Instruments; PartNumber: 74ACT11257DBR; VCC(Min)(V): 4.5; VCC(Max)(V): 5.5; Output Type: CMOS; Function: Encoder/Multiplexer; ICC @ Nom Voltage(Max)(mA): 0.08; Input Type: TTL; Bits(#): 2; F @ Nom Voltage(Max)(Mhz): 90; Configuration: 2：1; Channels(#): 4; Rating: Catalog; Technology Family: ACT; Voltage(Nom)(V): 5; Schmitt Trigger: No; Output Drive (IOL/IOH)(Max)(mA): 24/-24; tpd @ Nom Voltage(Max)(ns): 8; DatasheetVersion: SCAS053B; PackageReference: DB0020A; Supplier 1: Mouser; Supplier Part Number 1: 595-74ACT11257DBR; Supplier 2: Digi-Key; Supplier Part Number 2: 296-4194-2-ND; Supplier 3: Digi-Key; Supplier Part Number 3: 296-4194-1-ND; Supplier 4: Digi-Key; Supplier Part Number 4: 296-4194-6-ND; Operating Temperature Range(C): -40 to 85; Type: 3-State Output; Code_JEDEC: MO-150; ComponentLink1Description: Manufacturer URL; ComponentLink1URL: http://www.ti.com/; ComponentLink2Description: Datasheet; ComponentLink2URL: http://www.ti.com/lit/ds/symlink/74act11257.pdf; ComponentLink3Description: Package Specification; ComponentLink3URL: http://www.ti.com/lit/ml/mpds508/mpds508.pdf
footprint DB0020A_N (SOP, 20-Leads, Body 5.6x7.5mm, Pitch 0.65mm, IPC Medium Density)
footprint DB0020A_M (SOP, 20-Leads, Body 5.6x7.5mm, Pitch 0.65mm, IPC Low Density)
footprint DB0020A_L (SOP, 20-Leads, Body 5.6x7.5mm, Pitch 0.65mm, IPC High Density)
pins: 1 ~{A}/B (in), 2 1Y (hiz), 3 2Y (hiz), 4 GND (power), 5 GND (power), 6 GND (power), 7 GND (power), 8 3Y (hiz), 9 4Y (hiz), 10 ~{OE} (in), 11 4B (in), 12 4A (in), 13 3B (in), 14 3A (in), 15 VCC (power), 16 VCC (power), 17 2B (in), 18 2A (in), 19 1B (in), 20 1A (in)

## 74ACT11257DW
designator U?
Quadruple 2-Line To 1-Line Data Selectors/Multiplexers With 3-State Outputs, DW0020A, TUBE; Generic Part Number: 74ACT11257; Manufacturer: Texas Instruments; PartNumber: 74ACT11257DW; VCC(Min)(V): 4.5; VCC(Max)(V): 5.5; Output Type: CMOS; Function: Encoder/Multiplexer; ICC @ Nom Voltage(Max)(mA): 0.08; Input Type: TTL; Bits(#): 2; F @ Nom Voltage(Max)(Mhz): 90; Configuration: 2：1; Channels(#): 4; Rating: Catalog; Technology Family: ACT; Voltage(Nom)(V): 5; Schmitt Trigger: No; Output Drive (IOL/IOH)(Max)(mA): 24/-24; tpd @ Nom Voltage(Max)(ns): 8; DatasheetVersion: SCAS053B; PackageReference: DW0020A; Supplier 1: Mouser; Supplier Part Number 1: 595-74ACT11257DW; Supplier 2: Digi-Key; Supplier Part Number 2: 296-4195-5-ND; Operating Temperature Range(C): -40 to 85; Type: 3-State Output; Code_JEDEC: MS-013; ComponentLink1Description: Manufacturer URL; ComponentLink1URL: http://www.ti.com/; ComponentLink2Description: Datasheet; ComponentLink2URL: http://www.ti.com/lit/ds/symlink/74act11257.pdf; ComponentLink3Description: Package Specification; ComponentLink3URL: http://www.ti.com/lit/ml/mpds173a/mpds173a.pdf
footprint DW0020A_N (SOIC, 20-Leads, Body 13x7.6mm, Pitch 1.27mm, IPC Medium Density)
footprint DW0020A_M (SOIC, 20-Leads, Body 13x7.6mm, Pitch 1.27mm, IPC Low Density)
footprint DW0020A_L (SOIC, 20-Leads, Body 13x7.6mm, Pitch 1.27mm, IPC High Density)
pins: 1 ~{A}/B (in), 2 1Y (hiz), 3 2Y (hiz), 4 GND (power), 5 GND (power), 6 GND (power), 7 GND (power), 8 3Y (hiz), 9 4Y (hiz), 10 ~{OE} (in), 11 4B (in), 12 4A (in), 13 3B (in), 14 3A (in), 15 VCC (power), 16 VCC (power), 17 2B (in), 18 2A (in), 19 1B (in), 20 1A (in)

## 74ACT11257DWR
designator U?
Quadruple 2-Line To 1-Line Data Selectors/Multiplexers With 3-State Outputs, DW0020A, LARGE T&R; Generic Part Number: 74ACT11257; Manufacturer: Texas Instruments; PartNumber: 74ACT11257DWR; VCC(Min)(V): 4.5; VCC(Max)(V): 5.5; Output Type: CMOS; Function: Encoder/Multiplexer; ICC @ Nom Voltage(Max)(mA): 0.08; Input Type: TTL; Bits(#): 2; F @ Nom Voltage(Max)(Mhz): 90; Configuration: 2：1; Channels(#): 4; Rating: Catalog; Technology Family: ACT; Voltage(Nom)(V): 5; Schmitt Trigger: No; Output Drive (IOL/IOH)(Max)(mA): 24/-24; tpd @ Nom Voltage(Max)(ns): 8; DatasheetVersion: SCAS053B; PackageReference: DW0020A; Supplier 1: Mouser; Supplier Part Number 1: 595-74ACT11257DWR; Supplier 2: Digi-Key; Supplier Part Number 2: 296-4195-2-ND; Supplier 3: Digi-Key; Supplier Part Number 3: 296-4195-1-ND; Supplier 4: Digi-Key; Supplier Part Number 4: 296-4195-6-ND; Operating Temperature Range(C): -40 to 85; Type: 3-State Output; Code_JEDEC: MS-013; ComponentLink1Description: Manufacturer URL; ComponentLink1URL: http://www.ti.com/; ComponentLink2Description: Datasheet; ComponentLink2URL: http://www.ti.com/lit/ds/symlink/74act11257.pdf; ComponentLink3Description: Package Specification; ComponentLink3URL: http://www.ti.com/lit/ml/mpds173a/mpds173a.pdf
footprint DW0020A_N (SOIC, 20-Leads, Body 13x7.6mm, Pitch 1.27mm, IPC Medium Density)
footprint DW0020A_M (SOIC, 20-Leads, Body 13x7.6mm, Pitch 1.27mm, IPC Low Density)
footprint DW0020A_L (SOIC, 20-Leads, Body 13x7.6mm, Pitch 1.27mm, IPC High Density)
pins: 1 ~{A}/B (in), 2 1Y (hiz), 3 2Y (hiz), 4 GND (power), 5 GND (power), 6 GND (power), 7 GND (power), 8 3Y (hiz), 9 4Y (hiz), 10 ~{OE} (in), 11 4B (in), 12 4A (in), 13 3B (in), 14 3A (in), 15 VCC (power), 16 VCC (power), 17 2B (in), 18 2A (in), 19 1B (in), 20 1A (in)

## 74ACT11257PW
designator U?
Quadruple 2-Line To 1-Line Data Selectors/Multiplexers With 3-State Outputs, PW0020A, TUBE; Generic Part Number: 74ACT11257; Manufacturer: Texas Instruments; PartNumber: 74ACT11257PW; VCC(Min)(V): 4.5; VCC(Max)(V): 5.5; Output Type: CMOS; Function: Encoder/Multiplexer; ICC @ Nom Voltage(Max)(mA): 0.08; Input Type: TTL; Bits(#): 2; F @ Nom Voltage(Max)(Mhz): 90; Configuration: 2：1; Channels(#): 4; Rating: Catalog; Technology Family: ACT; Voltage(Nom)(V): 5; Schmitt Trigger: No; Output Drive (IOL/IOH)(Max)(mA): 24/-24; tpd @ Nom Voltage(Max)(ns): 8; DatasheetVersion: SCAS053B; PackageReference: PW0020A; Supplier 1: Mouser; Supplier Part Number 1: 595-74ACT11257PW; Supplier 2: Digi-Key; Supplier Part Number 2: 74ACT11257PW-ND; Operating Temperature Range(C): -40 to 85; Type: 3-State Output; Code_JEDEC: MO-153; ComponentLink1Description: Manufacturer URL; ComponentLink1URL: http://www.ti.com/; ComponentLink2Description: Datasheet; ComponentLink2URL: http://www.ti.com/lit/ds/symlink/74act11257.pdf; ComponentLink3Description: Package Specification; ComponentLink3URL: http://www.ti.com/lit/ml/mpds362/mpds362.pdf
footprint PW0020A_N (SOP, 20-Leads, Body 6.6x4.5mm, Pitch 0.65mm, IPC Medium Density)
footprint PW0020A_M (SOP, 20-Leads, Body 6.6x4.5mm, Pitch 0.65mm, IPC Low Density)
footprint PW0020A_L (SOP, 20-Leads, Body 6.6x4.5mm, Pitch 0.65mm, IPC High Density)
pins: 1 ~{A}/B (in), 2 1Y (hiz), 3 2Y (hiz), 4 GND (power), 5 GND (power), 6 GND (power), 7 GND (power), 8 3Y (hiz), 9 4Y (hiz), 10 ~{OE} (in), 11 4B (in), 12 4A (in), 13 3B (in), 14 3A (in), 15 VCC (power), 16 VCC (power), 17 2B (in), 18 2A (in), 19 1B (in), 20 1A (in)

## 74ACT11286D
designator U?
9-Bit Parity Generators/Checkers With Bus Driver Parity I/O Ports, D0014A, TUBE; Generic Part Number: 74ACT11286; Manufacturer: Texas Instruments; PartNumber: 74ACT11286D; VCC(Min)(V): 4.5; VCC(Max)(V): 5.5; Output Type: CMOS; Inputs: 9; ICC @ Nom Voltage(Max)(mA): 0.08; Input Type: TTL; F @ Nom Voltage(Max)(Mhz): 90; Rating: Catalog; Technology Family: ACT; Voltage(Nom)(V): 5; Schmitt Trigger: No; Output Drive (IOL/IOH)(Max)(mA): 24/-24; tpd @ Nom Voltage(Max)(ns): 12; DatasheetVersion: SCAS069B; PackageReference: D0014A; Supplier 1: Mouser; Supplier Part Number 1: 595-74ACT11286D; Supplier 2: Digi-Key; Supplier Part Number 2: 296-4196-5-ND; Function: Parity; Bits(#): 9; Operating Temperature Range(C): -40 to 85; Type: Other; Code_JEDEC: MS-012; ComponentLink1Description: Manufacturer URL; ComponentLink1URL: http://www.ti.com/; ComponentLink2Description: Datasheet; ComponentLink2URL: http://www.ti.com/lit/ds/symlink/74act11286.pdf; ComponentLink3Description: Package Specification; ComponentLink3URL: http://www.ti.com/lit/ml/mpds177g/mpds177g.pdf
footprint D0014A_N (SOIC, 14-Leads, Body 8.75x4mm, Pitch 1.27mm, IPC Medium Density)
footprint D0014A_M (SOIC, 14-Leads, Body 8.75x4mm, Pitch 1.27mm, IPC Low Density)
footprint D0014A_L (SOIC, 14-Leads, Body 8.75x4mm, Pitch 1.27mm, IPC High Density)
pins: 1 B (in), 2 A (in), 3 PARITY I/O (io), 4 GND (power), 5 ~{PARITY ERROR} (out), 6 ~{XMIT} (in), 7 I (in), 8 H (in), 9 G (in), 10 F (in), 11 VCC (power), 12 E (in), 13 D (in), 14 C (in)